# Altium footprint library ZJUNlict_footprint.PcbLib: 113 footprints (part 2 of 8)
Each footprint in its own frame and in the unit in brackets; x right, y up, seen from the top. Pads: shape width x height; smd on the part's side, far side on the other; paste and mask are expansions set on the pad; w line width, h text height; cw(c..) or ccw(c..) is an arc to the next point about the centre after c.
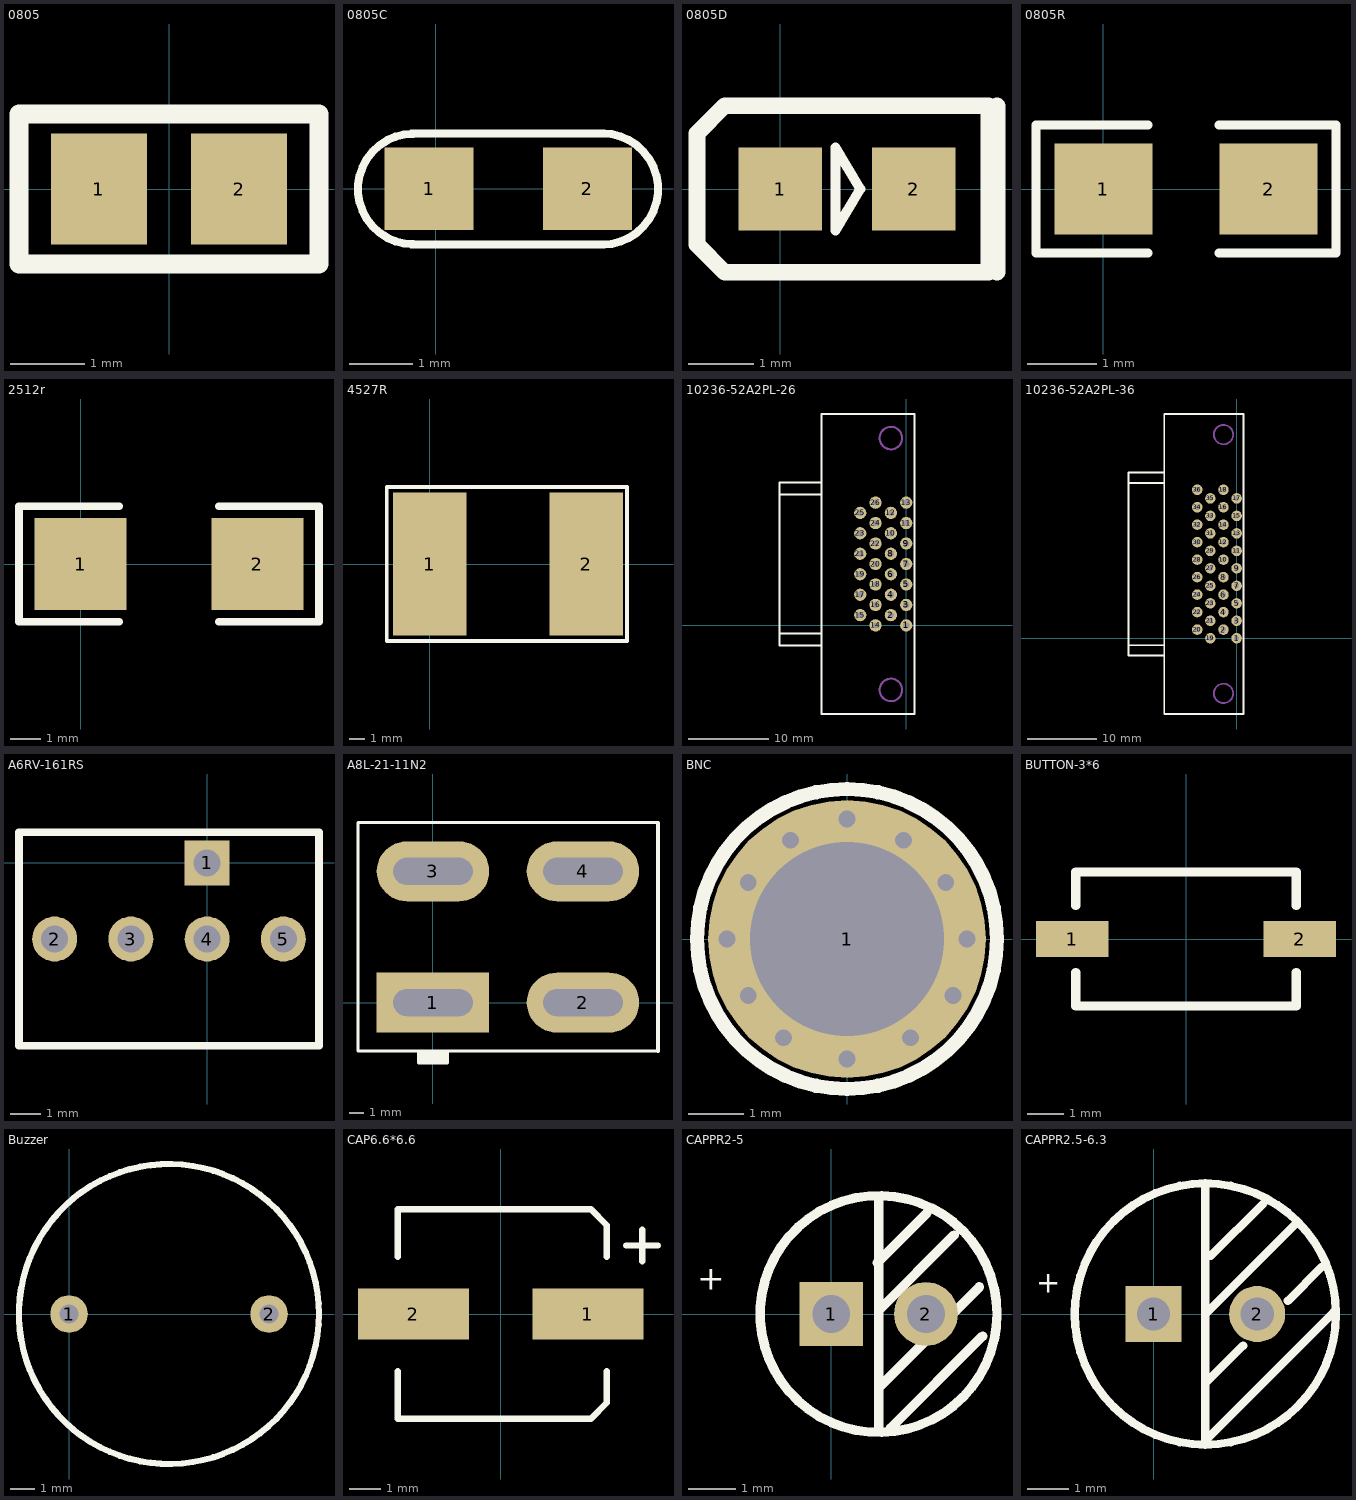
[diagram p1: the footprints below, top view; thin cyan lines are the x and y axes]

## 0805 [mm]
pads (2):
  rect 1.3x1.5 smd: 1(-0.95,0) 2(0.95,0)
Top Overlay:
  lines w0.254: -2.032,-1.016 2.032,-1.016 2.032,1.016 -2.032,1.016 -2.032,-1.016

## 0805C [mm]
pads (2):
  rect 1.4x1.3 smd: 1(-0.102,0) 2(2.388,0)
Top Overlay:
  lines w0.127: -0.377,-0.876 2.647,-0.876 ; -0.377,0.871 2.647,0.871 ; -0.351,-0.87 cw(c-0.351,-0.003) -0.351,0.865 ; 2.622,-0.876 ccw(c2.622,-0.003) 2.622,0.871

## 0805D [mil] "二?"
pads (2):
  rect 50x50 smd: 1(0,0) 2(80,0)
Top Overlay:
  lines w5.91: 33,-25 33,25 48,0 33,-25
  lines w10: 130,-50 130,0 130,50 ; -50,-33.33 -50,33.33 -33.33,50 125,50 125,-50 -33.33,-50 -50,-33.33

## 0805R [mm]
height 0.051
pads (2):
  rect 1.4x1.3 smd: 1(0,0) 2(2.362,0)
Top Overlay:
  lines w0.127: 0.635,-0.914 -0.965,-0.914 -0.965,0.914 0.635,0.914 ; 1.651,-0.914 3.327,-0.914 3.327,0.914 1.651,0.914

## 2512r [mil] "Chip Resistor; Body 6.3 x 3.2 mm (L"
height 23.62
pads (2):
  rect 120x120 smd: 1(0,0) 2(230,0)
Top Overlay:
  lines w10: 50,-75 -80,-75 -80,75 50,75 ; 180,-75 310,-75 310,75 180,75

## 4527R [mm]
pads (2):
  rect 4.74x9.25 smd: 1(0,0) 2(10.1,0)
Top Overlay:
  lines w0.254: -2.772,-4.953 12.722,-4.953 12.722,4.953 -2.772,4.953 -2.772,-4.953

## 10236-52A2PL-26 [mil]
pads (26):
  round 60 hole 30: 1(0,0) 2(-75,50) 3(0,100) 4(-75,150) 5(0,200) 6(-75,250) 7(0,300) 8(-75,350) 9(0,400) 10(-75,450) 11(0,500) 12(-75,550) 13(0,600) 14(-150,0) 15(-225,50) 16(-150,100) 17(-225,150) 18(-150,200) 19(-225,250) 20(-150,300) 21(-225,350) 22(-150,400) 23(-225,450) 24(-150,500) 25(-225,550) 26(-150,600)
Top Overlay:
  lines w10: -618.31,-98.03 -414,-98.03 ; -618.31,-98 -618.31,698 ; -618.31,-39.37 -414,-39.37 ; -618.31,638.98 -414,638.98 ; -618.31,698.03 -414,698.03 ; -413.58,-433.07 39.37,-433.07 39.37,1033.07 -413.58,1033.07 -413.58,-433.07
Mechanical 1:
  circle w10: c-75,915.35 r55.12
  circle w10: c-75,-315.35 r55.12

## 10236-52A2PL-36 [mil]
pads (36):
  round 60 hole 30: 1(0,0) 2(-75,50) 3(0,100) 4(-75,150) 5(0,200) 6(-75,250) 7(0,300) 8(-75,350) 9(0,400) 10(-75,450) 11(0,500) 12(-75,550) 13(0,600) 14(-75,650) 15(0,700) 16(-75,750) 17(0,800) 18(-75,850) 19(-150,0) 20(-225,50) 21(-150,100) 22(-225,150) 23(-150,200) 24(-225,250) 25(-150,300) 26(-225,350) 27(-150,400) 28(-225,450) 29(-150,500) 30(-225,550) 31(-150,600) 32(-225,650) 33(-150,700) 34(-225,750) 35(-150,800) 36(-225,850)
Top Overlay:
  lines w10: -618.31,-98.03 -414,-98.03 ; -618.31,-98 -618.31,948.03 -414,948.03 ; -618.31,-39.37 -414,-39.37 ; -618.31,888.98 -414,888.98 ; -413.58,-433.07 39.37,-433.07 39.37,1283.07 -413.58,1283.07 -413.58,-433.07
Mechanical 1:
  circle w10: c-75,1165.35 r55.12
  circle w10: c-75,-315.35 r55.12

## A6RV-161RS [mm] "旋转开?"
height 10
pads (5):
  rect 1.5x1.5 hole 0.9: 1(0,0)
  round 1.5 hole 0.9: 2(-5.08,-2.54) 3(-2.54,-2.54) 4(0,-2.54) 5(2.54,-2.54)
Top Overlay:
  lines w0.254: -6.27,-6.096 -6.27,1.016 ; 3.73,-6.096 -6.223,-6.096 3.73,-6.096 ; 3.73,-6.096 3.73,1.016 ; 3.73,1.016 -6.223,1.016 3.73,1.016

## A8L-21-11N2 [mm]
pads (4):
  rect 7.5x4 hole 1.8 slot 5.3 at 0 deg: 1(0,0)
  oval 7.5x4 hole 1.8 slot 5.3 at 0 deg: 2(10,0) 3(0,8.75) 4(10,8.75)
Top Overlay:
  rectangle: -0.953,-4.023 0.953,-3.261
  lines w0.2: -5,11.979 -5,-3.225 15,-3.225 ; -5,12 15,12 ; -0.953,-3.261 -0.953,-4.023 0.953,-4.023 0.953,-3.261
  lines w0.254: 15,-3.225 15,11.979

## BNC [mm]
pads (1):
  round 5 hole 3.5: 1(0,0)
via 0,2.159 diameter 0.635 hole 0.305
via -2.159,0 diameter 0.635 hole 0.305
via 0,-2.159 diameter 0.635 hole 0.305
via -1.778,1.016 diameter 0.635 hole 0.305
via -1.016,1.778 diameter 0.635 hole 0.305
via -1.143,-1.778 diameter 0.635 hole 0.305
via -1.778,-1.016 diameter 0.635 hole 0.305
via 1.143,-1.778 diameter 0.635 hole 0.305
via 1.905,-1.016 diameter 0.635 hole 0.305
via 2.159,0 diameter 0.635 hole 0.305
via 1.016,1.778 diameter 0.635 hole 0.305
via 1.778,1.016 diameter 0.635 hole 0.305
Top Overlay:
  circle w0.254: c0,0 r2.7

## BUTTON-3*6 [mm]
pads (2):
  rect 2x1 smd: 1(-3.15,0) 2(3.15,0)
Top Overlay:
  lines w0.254: -3.05,-0.925 -3.05,-1.85 3.05,-1.85 3.05,-0.925 ; -3.05,0.925 -3.05,1.85 3.05,1.85 3.05,0.925

## Buzzer [mil]
height 250
pads (2):
  round 60 hole 30: 1(0,0) 2(320,0)
Top Overlay:
  circle w10: c160,0 r240

## CAP6.6*6.6 [mm]
pads (2):
  rect 3.5x1.6 smd: 1(2.75,0) 2(-2.75,0)
Top Overlay:
  lines w0.203: -3.25,-1.8 -3.25,-3.3 2.85,-3.3 3.35,-2.8 3.35,-1.8 ; -3.25,1.8 -3.25,3.3 2.85,3.3 3.35,2.8 3.35,1.8 ; 3.964,2.161 4.964,2.161 ; 4.464,1.661 4.464,2.661

## CAPPR2-5 [mm] "Capacitor, Electrolytic, Radial; Body 6.3 x 11 mm (Dia.xH typ); Pin Spacing 2.5 mm"
pads (2):
  rect 1.35x1.35 hole 0.8: 1(0,0)
  round 1.35 hole 0.8: 2(2,0)
Top Overlay:
  circle w0.2: c1,0 r2.5
  lines w0.2: 0.974,1.087 2.013,2.125 ; 1,-2.4 1,2.4 ; 1.006,0.081 2.594,1.668 ; 1.25,-2.413 3.197,-0.466
  lines w0.203: 1.016,-1.541 3.127,0.57
  text "+" at -2.834,0.508 h0.51

## CAPPR2.5-6.3 [mm] "Capacitor, Electrolytic, Radial; Body 6.3 x 11 mm (Dia.xH typ); Pin Spacing 2.5 mm"
pads (2):
  rect 1.35x1.35 hole 0.8: 1(0,0)
  round 1.35 hole 0.8: 2(2.5,0)
Top Overlay:
  circle w0.2: c1.25,0 r3.15
  lines w0.2: 1.25,3.048 1.25,-3.048 4.349,0.051 ; 1.26,0.01 3.409,2.159 ; 1.377,1.397 2.647,2.667
  lines w0.203: 1.27,-1.651 2.159,-0.762 ; 3.238,0.318 4.064,1.143
  text "+" at -2.834,0.508 h0.51